# Altium footprint library Wago.PcbLib: 3 footprints
Each footprint in its own frame and in the unit in brackets; x right, y up, seen from the top. Pads: shape width x height; smd on the part's side, far side on the other; paste and mask are expansions set on the pad; w line width, h text height; cw(c..) or ccw(c..) is an arc to the next point about the centre after c.
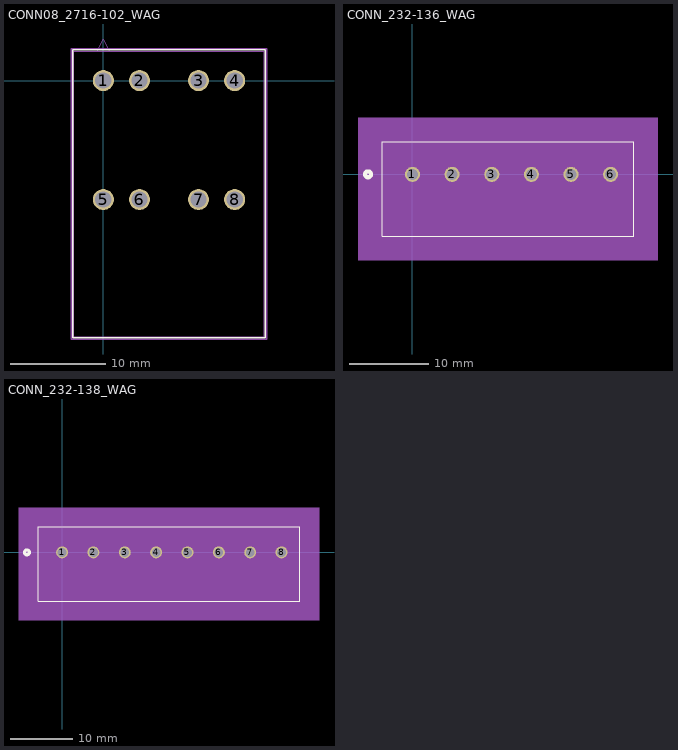
[diagram p0: the footprints below, top view; thin cyan lines are the x and y axes]

## CONN08_2716-102_WAG [mil]
pads (8):
  round 87 hole 67 mask+0: 1(0,0) 2(149.61,0) 3(393.7,0) 4(543.31,0) 5(0,-492.13) 6(149.61,-492.13) 7(393.7,-492.13) 8(543.31,-492.13)
Top Overlay:
  lines w6: -126.85,-1063.95 670.15,-1063.95 670.15,127.05 -126.85,127.05 -126.85,-1063.95
Mechanical 13:
  lines w1: -25,122.05 0,172.05 25,122.05 ; -121.85,-1058.95 665.15,-1058.95 665.15,122.05 -121.85,122.05 -121.85,-1058.95
Mechanical 15:
  lines w6: -131.85,-1068.95 -131.85,132.05 675.15,132.05 675.15,-1068.95 -131.85,-1068.95
3D body: height 10, standoff 0, extent 0,0 10,10
3D body "2716-102.stp": height 1133.86, standoff -177.17, extent -118.11,-1059.06 669.29,122.05

## CONN_232-136_WAG [mil]
pads (6):
  round 75 hole 55 mask+0: 1(0,0) 2(196.85,0) 3(393.7,0) 4(590.55,0) 5(787.4,0) 6(984.25,0)
Top Overlay:
  circle w20: c-220.67,0 r15
  lines w6: -150.67,-306.49 1099.33,-306.49 1099.33,160.51 -150.67,160.51 -150.67,-306.49
Mechanical 5:
  region: -270.67,280.51 1219.33,280.51 1219.33,-426.49 -270.67,-426.49
Mechanical 13:
  circle w20: c0,-75 r15
  lines w1: -145.67,-301.49 1094.33,-301.49 1094.33,155.51 -145.67,155.51 -145.67,-301.49
Mechanical 15:
  region: 1104.33,165.51 -155.67,165.51 -155.67,-311.49 1104.33,-311.49
  lines w6: -155.67,-311.49 -155.67,165.51 1104.33,165.51 1104.33,-311.49 -155.67,-311.49
3D body "232-136.stp": height 718.5, standoff -196.85, extent -145.08,-301.69 1095.08,155
3D body: height 10, standoff 0, extent 0,0 10,10

## CONN_232-138_WAG [mil]
pads (8):
  round 75 hole 55 mask+0: 1(0,0) 2(196.85,0) 3(393.7,0) 4(590.55,0) 5(787.4,0) 6(984.25,0) 7(1181.1,0) 8(1377.95,0)
Top Overlay:
  circle w20: c-220.67,0 r15
  lines w6: -150.67,-306.49 1493.33,-306.49 1493.33,160.51 -150.67,160.51 -150.67,-306.49
Mechanical 5:
  region: -270.67,280.51 1613.33,280.51 1613.33,-426.49 -270.67,-426.49
Mechanical 13:
  circle w20: c0,-75 r15
  lines w1: -145.67,-301.49 1488.33,-301.49 1488.33,155.51 -145.67,155.51 -145.67,-301.49
Mechanical 15:
  region: 1498.33,165.51 -155.67,165.51 -155.67,-311.49 1498.33,-311.49
  lines w6: -155.67,-311.49 -155.67,165.51 1498.33,165.51 1498.33,-311.49 -155.67,-311.49
3D body: height 10, standoff 0, extent 0,0 10,10
3D body "232-138.stp": height 718.5, standoff -196.85, extent -146.93,-305 1486.93,151.69